# EAGLE library part IC_DIL20 (library dp_devices)
Universal 20pins IC
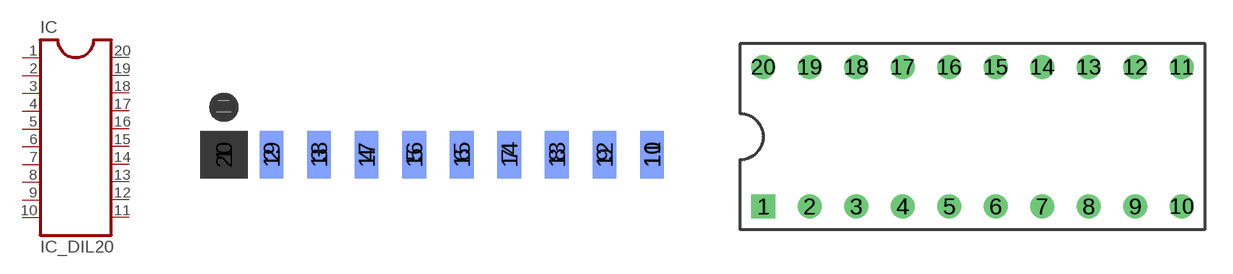
[diagram p36: symbol with the pads of EGDE2X10; footprints EGDE2X10, DIP20]

Designator prefix IC

## IC_DIL20-EDGE  [EGDE2X10]
1  1
2  2
3  3
4  4
5  5
6  6
7  7
8  8
9  9
10  10
11  11
12  12
13  13
14  14
15  15
16  16
17  17
18  18
19  19
20  20

## IC_DIL20-PTH  [DIP20]
Pads as for EGDE2X10

## Footprint EGDE2X10 (pad centres in mm)
smd 1.27 x 2.54: 1 -11.43,0; 2 -8.89,0; 3 -6.35,0; 4 -3.81,0; 5 -1.27,0; 6 1.27,0; 7 3.81,0; 8 6.35,0; 9 8.89,0; 10 11.43,0
smd 1.27 x 2.54 bottom: 11 11.43,0; 12 8.89,0; 13 6.35,0; 14 3.81,0; 15 1.27,0; 16 -1.27,0; 17 -3.81,0; 18 -6.35,0; 19 -8.89,0; 20 -11.43,0

## Footprint DIP20 (pad centres in mm)
drill 0.8 square: 1 -11.43,-3.81
drill 0.8 round: 2 -8.89,-3.81; 3 -6.35,-3.81; 4 -3.81,-3.81; 5 -1.27,-3.81; 6 1.27,-3.81; 7 3.81,-3.81; 8 6.35,-3.81; 9 8.89,-3.81; 10 11.43,-3.81; 11 11.43,3.81; 12 8.89,3.81; 13 6.35,3.81; 14 3.81,3.81; 15 1.27,3.81; 16 -1.27,3.81; 17 -3.81,3.81; 18 -6.35,3.81; 19 -8.89,3.81; 20 -11.43,3.81